# Altium footprint library ADUM1401BRWZ.PcbLib: 1 footprints
Each footprint in its own frame and in the unit in brackets; x right, y up, seen from the top. Pads: shape width x height; smd on the part's side, far side on the other; paste and mask are expansions set on the pad; w line width, h text height; cw(c..) or ccw(c..) is an arc to the next point about the centre after c.
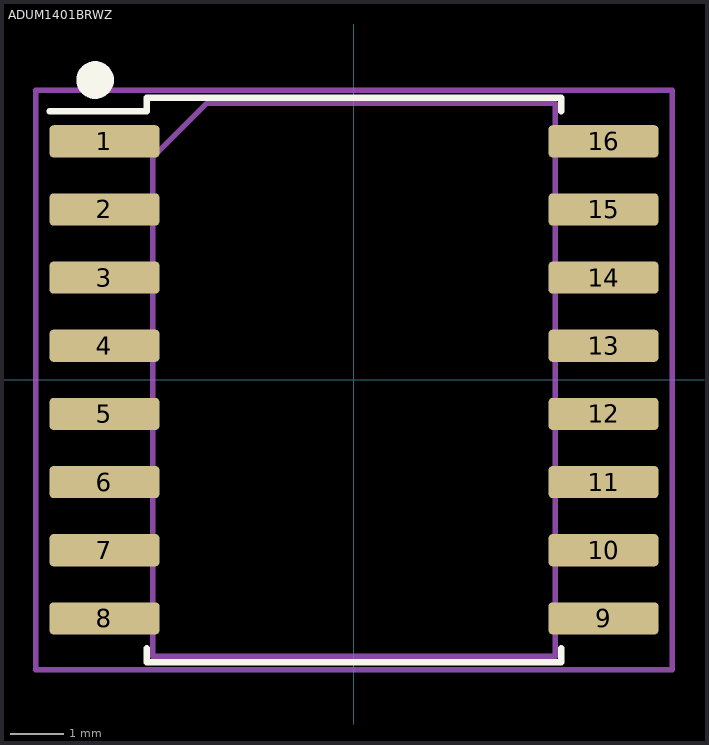
[diagram p0: the footprint, top view; thin cyan lines are the x and y axes]

## ADUM1401BRWZ [mm]
pads (16):
  rrect25% 2.05x0.6 smd paste+0: 1(-4.65,4.445) 2(-4.65,3.175) 3(-4.65,1.905) 4(-4.65,0.635) 5(-4.65,-0.635) 6(-4.65,-1.905) 7(-4.65,-3.175) 8(-4.65,-4.445) 9(4.65,-4.445) 10(4.65,-3.175) 11(4.65,-1.905) 12(4.65,-0.635) 13(4.65,0.635) 14(4.65,1.905) 15(4.65,3.175) 16(4.65,4.445)
Top Overlay:
  circle w0.5: c-4.826,5.588 r0.1
  lines w0.12: -5.675,5.005 -3.86,5.005 -3.86,5.26 0,5.26 3.86,5.26 3.86,5.005 ; -3.86,-5.005 -3.86,-5.26 0,-5.26 3.86,-5.26 3.86,-5.005
Mechanical 1:
  lines w0.1: -5.93,-5.4 -5.93,5.4 5.93,5.4 5.93,-5.4 -5.93,-5.4 ; -3.75,-5.15 -3.75,4.15 -2.75,5.15 3.75,5.15 3.75,-5.15 -3.75,-5.15
  text ".Designator" at 0,0.188 h1
Mechanical 15:
  text "+" at -0.333,-0.5 h1
3D body "SOIC Package.stp": height 2, standoff 0, extent -5.082,-5.04 5.082,5.04